# Altium schematic symbol library SCH - CONNECTORS - 3 PIN.SCHLIB: 1 symbol
Pins are listed as number, name and electrical type; pins without a type are passive.

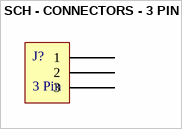
[diagram p0: symbol SCH - CONNECTORS - 3 PIN]

## SCH - CONNECTORS - 3 PIN
designator J?, comment 3 Pin
pins: 1, 2, 3